# Altium footprint library CommonFPs.PcbLib: 38 footprints (part 1 of 3)
Each footprint in its own frame and in the unit in brackets; x right, y up, seen from the top. Pads: shape width x height; smd on the part's side, far side on the other; paste and mask are expansions set on the pad; w line width, h text height; cw(c..) or ccw(c..) is an arc to the next point about the centre after c.
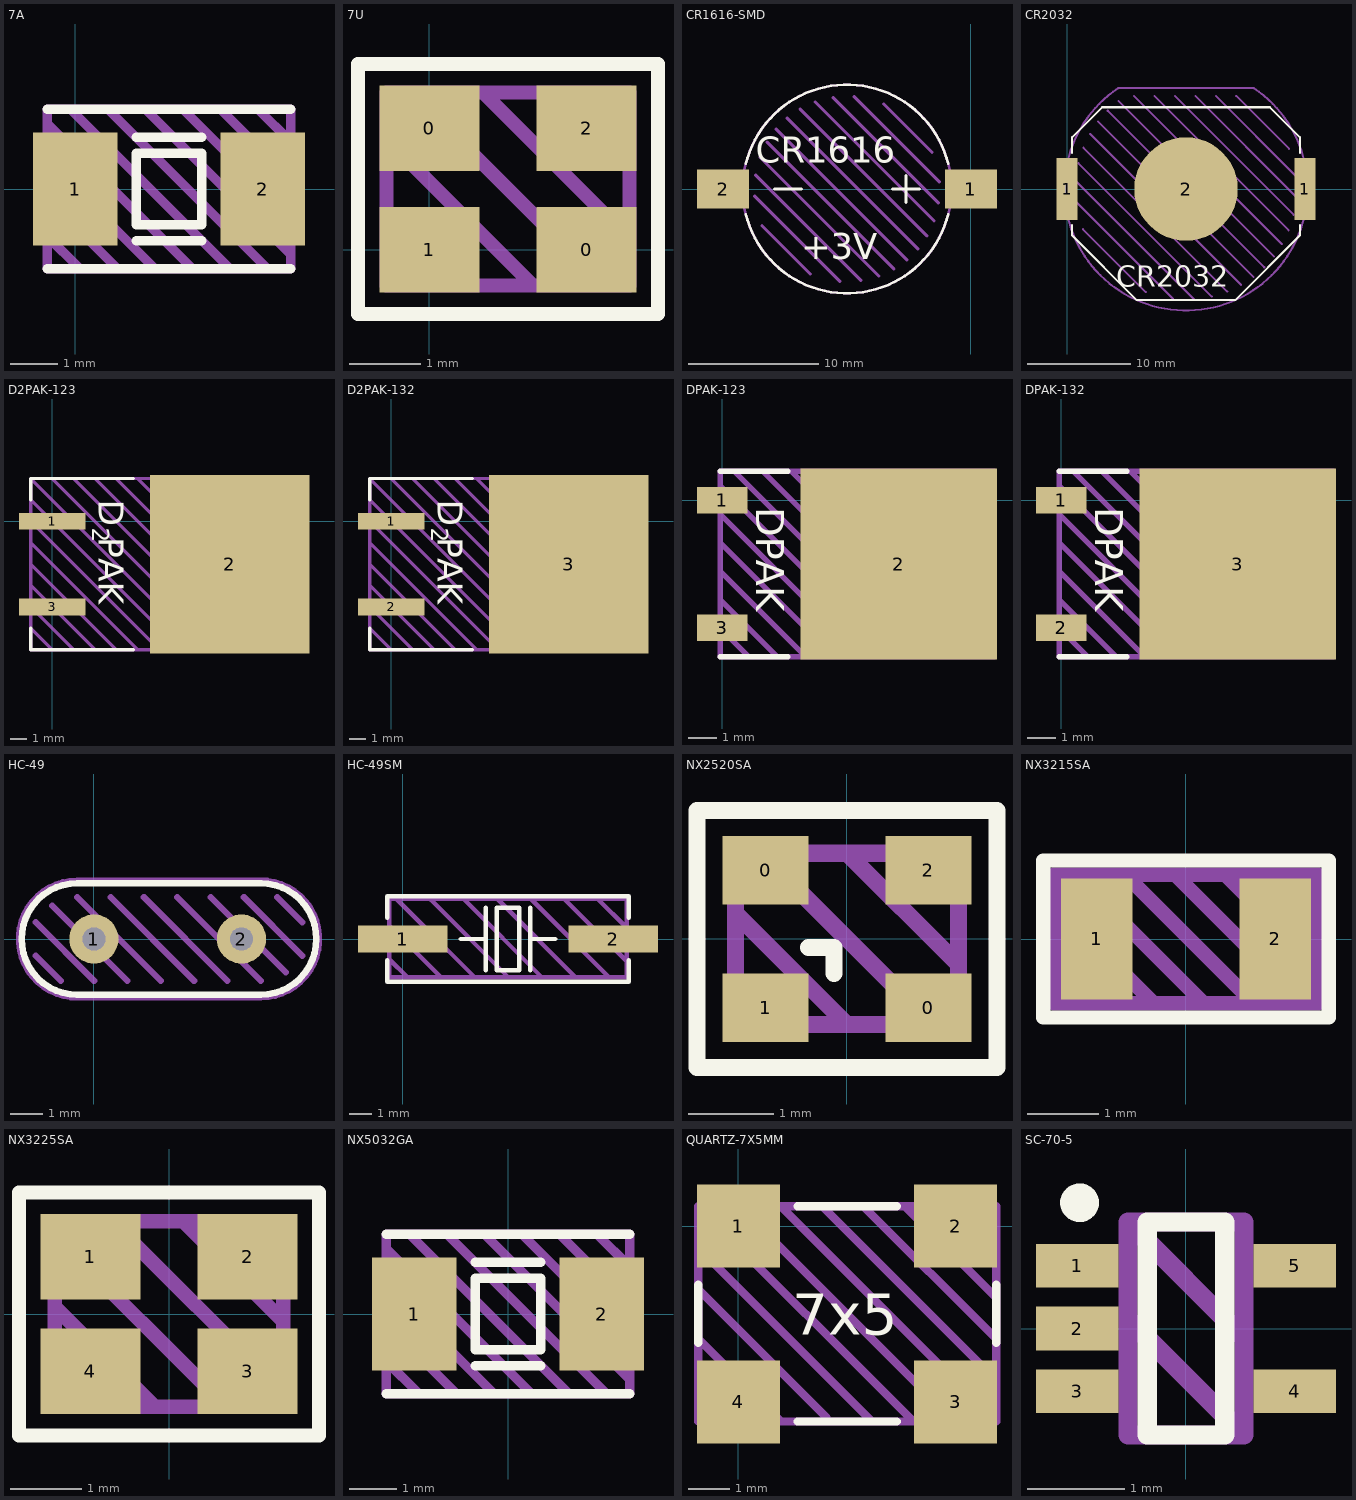
[diagram p0: the footprints below, top view; thin cyan lines are the x and y axes]

## 7A [mm] "SMD Glass Sealing Crystals"
pads (2):
  rect 1.8x2.4 smd: 1(0,0) 2(4,0)
Top Overlay:
  lines w0.2: -0.6,-1.7 4.6,-1.7 ; -0.6,1.7 4.6,1.7 ; 1.3,-1.1 2.7,-1.1 ; 1.3,1.1 2.7,1.1 ; 1.3,-0.762 1.3,0.762 2.7,0.762 2.7,-0.762 1.3,-0.762
Top Draw:
  lines w0.2: -0.6,-1 0.1,-1.7 ; -0.6,-0.2 0.9,-1.7 ; -0.6,0.6 1.7,-1.7 ; -0.6,1.4 2.5,-1.7 ; -0.1,1.7 3.3,-1.7 ; 0.7,1.7 4.1,-1.7 ; 1.5,1.7 4.6,-1.4 ; 2.3,1.7 4.6,-0.6 ; 3.1,1.7 4.6,0.2 ; 3.9,1.7 4.6,1 ; -0.6,-1.7 -0.6,1.7 4.6,1.7 4.6,-1.7 -0.6,-1.7
Top Info:
  text "'.Comment'" at -1.186,-2.837 h0.75
3D body: height 0.8, standoff 0.6, extent -0.4,-1.5 4.4,1.5
3D body: height 0.6, standoff 0, extent -0.6,-1.7 4.6,1.7

## 7U [mm] "3.2x2.5mm 7U Series SMD Crystal Units"
pads (4):
  rect 1.4x1.2 smd: 0(0,1.7) 0(2.2,0) 1(0,0) 2(2.2,1.7)
Top Overlay:
  lines w0.2: -1,-0.9 3.2,-0.9 3.2,2.6 -1,2.6 -1,-0.9
Top Draw:
  lines w0.2: -0.6,0.55 0.45,-0.5 ; -0.6,1.55 1.45,-0.5 ; -0.25,2.2 2.45,-0.5 ; 0.75,2.2 2.8,0.15 ; 1.75,2.2 2.8,1.15 ; -0.6,-0.5 2.8,-0.5 2.8,2.2 -0.6,2.2 -0.6,-0.5
Top Info:
  text "'.Comment'" at -1.449,-1.85 h0.6
3D body "NX3225SA.step": height 0.55, standoff 0, extent -0.5,-0.4 2.7,2.1

## CR1616-SMD [mm]
pads (2):
  rect 4x3 smd: 1(0,0) 2(-19,0)
Top Overlay:
  lines w0.2: -17.261,-1.94 ccw(c-9.5,0) -1.739,-1.94 ; -17.261,1.94 cw(c-9.5,0) -1.739,1.94
  lines w0.25: -15.032,0 -13,0 ; -6,0 -3.968,0 ; -4.984,-1.016 -4.984,1.016
  text "CR1616" at -16.5,2 h2
  text "+3V" at -13,-5.4 h2
Top Draw:
  circle w0.2: c-9.5,0 r8
  lines w0.25: -16.578,-0.559 -10.059,-7.078 ; -16.518,1.078 -8.422,-7.018 ; -16.172,2.429 -7.071,-6.672 ; -16.018,-2.816 -12.316,-6.518 ; -15.629,3.584 -5.916,-6.129 ; -14.927,4.578 -4.922,-5.427 ; -14.078,5.427 -4.073,-4.578 ; -13.084,6.129 -3.371,-3.584 ; -11.929,6.672 -2.828,-2.429 ; -10.578,7.018 -2.482,-1.078 ; -8.941,7.078 -2.422,0.559 ; -6.684,6.518 -2.982,2.816
Top Info:
  text "'.Comment'" at -15.873,-10.175 h1.5
3D body "cr1616.stp": height 2.1, standoff 0, extent -20.5,-8.095 1.6,8.1

## CR2032 [mm] "Battery Holder Compact"
pads (3):
  rect 2x6 smd: 1(0,0) 1(23,0)
  round 10 smd: 2(11.5,0)
Top Overlay:
  lines w0.2: 0.5,-3.5 0.5,-4.5 6.75,-10.75 16.25,-10.75 22.5,-4.5 22.5,-3.5 ; 0.5,3.5 0.5,5 ; 22.5,3.5 22.5,5 19.6,7.9 3.4,7.9 0.5,5 ; 0.5,5 0.5,5
  text "CR2032" at 4.75,-9.45 h2
Top Draw:
  lines w0.2: 0.828,0.773 12.273,-10.672 ; 0.874,-1.253 10.247,-10.626 ; 1.093,2.487 13.987,-10.407 ; 1.533,-3.892 7.608,-9.967 ; 1.571,3.989 15.489,-9.929 ; 2.218,5.322 16.822,-9.282 ; 3.009,6.511 18.011,-8.491 ; 3.934,7.566 19.066,-7.566 ; 4.989,8.491 19.991,-6.511 ; 6.46,9 20.782,-5.322 ; 8.44,9 21.429,-3.989 ; 10.42,9 21.907,-2.487 ; 12.399,9 22.172,-0.773 ; 14.379,9 22.126,1.253 ; 16.359,9 21.467,3.892 ; 4.948,9.753 ccw(c11.5,0) 18.052,9.753 4.948,9.753
Top Info:
  text "'.Comment'" at 4.827,-14.175 h1.5
3D body "CR2032_Holder.STEP": height 4.35, standoff 0.05, extent 0.05,-7.625 22.95,7.888

## D2PAK-123 [mm]
height 4.6
pads (3):
  rect 3.95x1 smd: 1(0,0) 3(0,-5.08)
  rect 9.5x10.6 smd: 2(10.541,-2.54)
Top Overlay:
  lines w0.2: -1.27,-6.35 -1.27,-7.62 4.826,-7.62 ; -1.27,1.27 -1.27,2.54 4.826,2.54
  text "2" at 2.379,-0.383 h1
  text "D PAK" at 2.762,1.27 h1.5
Top Draw:
  lines w0.2: -1.27,-6.35 0,-7.62 ; -1.27,-5.08 1.27,-7.62 ; -1.27,-3.81 2.54,-7.62 ; -1.27,-2.54 3.81,-7.62 ; -1.27,-1.27 5.08,-7.62 ; -1.27,0 6.35,-7.62 ; -1.27,1.27 7.62,-7.62 ; 0,2.54 10.16,-7.62 ; 1.27,2.54 11.43,-7.62 ; 2.54,2.54 12.7,-7.62 ; 3.81,2.54 13.97,-7.62 ; 5.08,2.54 14.097,-6.477 ; 6.35,2.54 14.097,-5.207 ; 7.62,2.54 14.097,-3.937 ; 8.89,-7.62 -1.27,2.54 ; 8.89,2.54 14.097,-2.667 ; 10.16,2.54 14.097,-1.397 ; 11.43,2.54 14.097,-0.127 ; 12.7,2.54 14.097,1.143 ; -1.27,2.54 14.097,2.54 14.097,-7.62 -1.27,-7.62 -1.27,2.54
Top Info:
  text "'.Comment'" at 1.339,-9.979 h1.25
3D body "D2PAK.step": height 4.7, standoff 0, extent -1.329,-7.69 14.096,2.61

## D2PAK-132 [mm]
height 4.6
pads (3):
  rect 3.95x1 smd: 1(0,0) 2(0,-5.08)
  rect 9.5x10.6 smd: 3(10.541,-2.54)
Top Overlay:
  lines w0.2: -1.27,-6.35 -1.27,-7.62 4.826,-7.62 ; -1.27,1.27 -1.27,2.54 4.826,2.54
  text "2" at 2.379,-0.383 h1
  text "D PAK" at 2.762,1.27 h1.5
Top Draw:
  lines w0.2: -1.27,-6.35 0,-7.62 ; -1.27,-5.08 1.27,-7.62 ; -1.27,-3.81 2.54,-7.62 ; -1.27,-2.54 3.81,-7.62 ; -1.27,-1.27 5.08,-7.62 ; -1.27,0 6.35,-7.62 ; -1.27,1.27 7.62,-7.62 ; 0,2.54 10.16,-7.62 ; 1.27,2.54 11.43,-7.62 ; 2.54,2.54 12.7,-7.62 ; 3.81,2.54 13.97,-7.62 ; 5.08,2.54 14.097,-6.477 ; 6.35,2.54 14.097,-5.207 ; 7.62,2.54 14.097,-3.937 ; 8.89,-7.62 -1.27,2.54 ; 8.89,2.54 14.097,-2.667 ; 10.16,2.54 14.097,-1.397 ; 11.43,2.54 14.097,-0.127 ; 12.7,2.54 14.097,1.143 ; -1.27,2.54 14.097,2.54 14.097,-7.62 -1.27,-7.62 -1.27,2.54
Top Info:
  text "'.Comment'" at 1.339,-9.979 h1.25
3D body "D2PAK.step": height 4.7, standoff 0, extent -1.329,-7.69 14.096,2.61

## DPAK-123 [mm] "TO-252"
pads (3):
  rect 1.8x0.95 smd: 1(0,0) 3(0,-4.56)
  rect 7x6.8 smd: 2(6.3,-2.28)
Top Overlay:
  lines w0.2: -0.073,-5.582 2.34,-5.582 ; -0.073,1.022 2.34,1.022
  text "DPAK" at 1.205,-0.253 h1
Top Draw:
  lines w0.2: -0.073,-4.566 0.943,-5.582 ; -0.073,-3.55 1.959,-5.582 ; -0.073,-2.534 2.975,-5.582 ; -0.073,-1.518 3.991,-5.582 ; -0.073,-0.502 5.007,-5.582 ; -0.073,0.514 6.023,-5.582 ; 0.435,1.022 7.039,-5.582 ; 1.451,1.022 8.055,-5.582 ; 2.467,1.022 9.071,-5.582 ; 3.483,1.022 9.706,-5.201 ; 4.499,1.022 9.706,-4.185 ; 5.515,1.022 9.706,-3.169 ; 6.531,1.022 9.706,-2.153 ; 7.547,1.022 9.706,-1.137 ; 8.563,1.022 9.706,-0.121 ; -0.073,-5.582 -0.073,1.022 9.706,1.022 9.706,-5.582 -0.073,-5.582
Top Info:
  text "'.Comment'" at 0.304,-7.254 h1
3D body "DPAK228P975X230-3N.step": height 2.3, standoff 0, extent -0.2,-5.53 9.55,0.97

## DPAK-132 [mm] "TO-252"
pads (3):
  rect 1.8x0.95 smd: 1(0,0) 2(0,-4.56)
  rect 7x6.8 smd: 3(6.3,-2.28)
Top Overlay:
  lines w0.2: -0.073,-5.582 2.34,-5.582 ; -0.073,1.022 2.34,1.022
  text "DPAK" at 1.205,-0.253 h1
Top Draw:
  lines w0.2: -0.073,-4.566 0.943,-5.582 ; -0.073,-3.55 1.959,-5.582 ; -0.073,-2.534 2.975,-5.582 ; -0.073,-1.518 3.991,-5.582 ; -0.073,-0.502 5.007,-5.582 ; -0.073,0.514 6.023,-5.582 ; 0.435,1.022 7.039,-5.582 ; 1.451,1.022 8.055,-5.582 ; 2.467,1.022 9.071,-5.582 ; 3.483,1.022 9.706,-5.201 ; 4.499,1.022 9.706,-4.185 ; 5.515,1.022 9.706,-3.169 ; 6.531,1.022 9.706,-2.153 ; 7.547,1.022 9.706,-1.137 ; 8.563,1.022 9.706,-0.121 ; -0.073,-5.582 9.706,-5.582 9.706,1.022 -0.073,1.022 -0.073,-5.582
Top Info:
  text "'.Comment'" at 0.304,-7.254 h1
3D body "DPAK228P975X230-3N.step": height 2.3, standoff 0, extent -0.2,-5.53 9.55,0.97

## HC-49 [mm]
pads (2):
  round 1.5 hole 0.7: 1(0,0) 2(4.5,0)
Top Overlay:
  lines w0.2: -0.529,-1.699 5.084,-1.699 ; -0.504,-1.7 cw(c-0.504,0) -0.504,1.7 ; -0.479,1.699 5.109,1.699 ; 5.084,-1.7 ccw(c5.084,0) 5.084,1.7
Top Draw:
  lines w0.2: -1.774,-0.508 -1.012,-1.27 ; -1.774,0.508 0.004,-1.27 ; -1.266,1.016 1.02,-1.27 ; -0.504,-1.778 5.084,-1.778 ; -0.504,1.27 2.036,-1.27 ; -0.504,1.778 5.084,1.778 ; -0.504,1.779 ccw(c-0.504,0) -0.479,-1.779 ; 0.512,1.27 3.052,-1.27 ; 1.528,1.27 4.068,-1.27 ; 2.544,1.27 5.084,-1.27 ; 3.56,1.27 5.846,-1.016 ; 4.576,1.27 6.354,-0.508 ; 5.059,1.779 cw(c5.084,0) 5.084,-1.779 ; 5.592,1.27 6.354,0.508
Top Info:
  text "'.Comment'" at -0.886,-2.937 h0.75
3D body: height 0.25, standoff -1.78, extent 4.246,-0.254 4.754,0.254
3D body: height 0.25, standoff -1.78, extent -0.254,-0.254 0.254,0.254
3D body: height 2.26, standoff 0.23, extent 3.687,-1.27 6.227,1.27
3D body: height 0.25, standoff 0, extent 3.433,-1.651 6.735,1.651
3D body: height 0.25, standoff 0, extent -2.155,-1.651 1.147,1.651
3D body: height 2.26, standoff 0.23, extent -1.647,-1.27 0.893,1.27
3D body: height 2.26, standoff 0.23, extent -0.382,-1.268 4.952,1.267
3D body: height 0.25, standoff 0, extent -0.377,-1.651 4.957,1.651

## HC-49SM [mm]
pads (2):
  rect 4x1.2 smd: 1(0,0) 2(9.4,0)
Top Overlay:
  lines w0.2: -0.7,-0.95 -0.7,-1.9 10.1,-1.9 10.1,-0.95 ; -0.7,0.95 -0.7,1.9 10.1,1.9 10.1,0.95 ; 2.6,0 3.7,0 ; 3.7,-1.4 3.7,0 ; 3.7,1.4 3.7,0 ; 5.7,-1.4 5.7,0 ; 5.7,1.4 5.7,0 ; 6.8,0 5.7,0 ; 4.2,-1.4 5.2,-1.4 5.2,1.4 4.2,1.4 4.2,-1.4
Top Draw:
  lines w0.2: -0.6,-0.9 0.2,-1.7 ; -0.241,1.759 3.2,-1.7 ; 1.259,1.759 4.7,-1.7 ; 1.7,-1.7 -0.6,0.6 ; 2.759,1.759 6.2,-1.7 ; 4.259,1.759 7.7,-1.7 ; 5.759,1.759 9.2,-1.7 ; 7.2,1.8 10,-1 10,-1.3 ; 8.7,1.8 10,0.5 10,0 ; -0.6,0.6 -0.6,0.6 ; -0.6,-1.7 -0.6,1.8 10,1.8 10,-1.7 -0.6,-1.7
Top Info:
  text "'.Comment'" at 0.451,-3.483 h1
3D body: height 0.1, standoff 0, extent 7.1,-0.5 11.1,0.5
3D body: height 0.1, standoff 0, extent -1.7,-0.5 2.3,0.5
3D body: height 3.5, standoff 0.1, extent -0.2,-1.7 9.6,1.7
3D body: height 0.6, standoff 0.1, extent -0.45,-1.9 9.85,1.9
3D body: height 0.3, standoff 0.05, extent -0.6,-2 10,2

## NX2520SA [mm]
pads (4):
  rect 1x0.8 smd: 0(-0.95,0.799) 0(0.95,-0.801) 1(-0.95,-0.801) 2(0.95,0.799)
Top Overlay:
  lines w0.2: -0.45,-0.101 -0.15,-0.101 -0.15,-0.401 ; -1.75,-1.501 1.75,-1.501 1.75,1.499 -1.75,1.499 -1.75,-1.501
Top Draw:
  lines w0.2: -1.3,0.3 0,-1 ; -1,1 1,-1 ; 0,1 1.3,-0.3 ; -1.3,-1 -1.3,1 1.3,1 1.3,-1 -1.3,-1
Top Info:
  text "'.Comment'" at -3.186,-2.637 h0.75
3D body: height 0.58, standoff 0, extent -1.225,-0.976 1.225,0.976
3D body: height 0.6, standoff 0.01, extent -1.202,-0.951 1.203,0.949
3D body: height 0.5, standoff 0.02, extent -1.25,-1.001 1.25,1.001

## NX3215SA [mm]
pads (2):
  rect 1x1.7 smd: 1(-1.25,0) 2(1.25,0)
Top Overlay:
  lines w0.2: -2,-1.1 -2,1.1 2,1.1 2,-1.1 -2,-1.1
Top Draw:
  lines w0.2: -1.85,-0.2 -1.15,-0.9 -0.95,-0.9 -1.35,-0.9 ; -1.85,0.5 -0.45,-0.9 -0.15,-0.9 ; -1.55,0.9 0.25,-0.9 0.45,-0.9 ; -0.85,0.9 0.95,-0.9 ; -0.15,0.9 1.65,-0.9 ; 0.55,0.9 1.85,-0.4 1.85,-0.6 ; 1.25,0.9 1.85,0.3 1.85,0 ; -1.85,-0.9 -1.85,0.9 1.85,0.9 1.85,-0.9 -1.85,-0.9
Top Info:
  text "'.Comment'" at -3.186,-2.237 h0.75
3D body: height 0.58, standoff 0.01, extent -1.45,-0.8 1.45,0.8
3D body: height 0.6, standoff 0.01, extent -1.425,-0.775 1.425,0.775
3D body: height 0.5, standoff 0, extent -1.475,-0.825 1.475,0.825

## NX3225SA [mm]
pads (4):
  rect 1.4x1.2 smd: 1(-1.1,0.8) 2(1.1,0.8) 3(1.1,-0.8) 4(-1.1,-0.8)
Top Overlay:
  lines w0.2: -2.1,-1.7 2.1,-1.7 2.1,1.7 -2.1,1.7 -2.1,-1.7
Top Draw:
  lines w0.2: -1.6,0.1 -0.2,-1.3 ; -1.6,1.1 0.8,-1.3 ; -0.8,1.3 1.6,-1.1 ; 0.2,1.3 1.6,-0.1 ; -1.6,-1.3 -1.6,1.3 1.6,1.3 1.6,-1.3 -1.6,-1.3
Top Info:
  text "'.Comment'" at -2.124,-2.492 h0.5
3D body "NX3225SA.step": height 0.55, standoff 0, extent -1.6,-1.25 1.6,1.25

## NX5032GA [mm] "SMD Glass Sealing Crystals"
pads (2):
  rect 1.8x2.4 smd: 1(-2,0) 2(2,0)
Top Overlay:
  lines w0.2: -2.6,-1.7 2.6,-1.7 ; -2.6,1.7 2.6,1.7 ; -0.7,-1.1 0.7,-1.1 ; -0.7,1.1 0.7,1.1 ; -0.7,-0.762 0.7,-0.762 0.7,0.762 -0.7,0.762 -0.7,-0.762
Top Draw:
  lines w0.2: -2.6,-1 -1.9,-1.7 ; -2.6,-0.2 -1.1,-1.7 ; -2.6,0.6 -0.3,-1.7 ; -2.6,1.4 0.5,-1.7 ; -2.1,1.7 1.3,-1.7 ; -1.3,1.7 2.1,-1.7 ; -0.5,1.7 2.6,-1.4 ; 0.3,1.7 2.6,-0.6 ; 1.1,1.7 2.6,0.2 ; 1.9,1.7 2.6,1 ; -2.6,-1.7 -2.6,1.7 2.6,1.7 2.6,-1.7 -2.6,-1.7
Top Info:
  text "'.Comment'" at -3.186,-2.837 h0.75
3D body: height 0.6, standoff 0, extent -2.6,-1.7 2.6,1.7
3D body: height 0.8, standoff 0.6, extent -2.4,-1.5 2.4,1.5

## QUARTZ-7X5MM [mm]
pads (4):
  rect 2x2 smd: 1(0,0) 2(5.25,0) 3(5.25,-4.25) 4(0,-4.25)
Top Overlay:
  lines w0.2: -0.971,-2.821 -0.971,-1.421 ; 1.429,-4.721 3.829,-4.721 ; 1.429,0.479 3.829,0.479 ; 6.229,-2.821 6.229,-1.421
  text "7x5" at 1.296,-2.621 h1
Top Draw:
  lines w0.2: -0.971,-3.721 0.029,-4.721 ; -0.971,-2.721 1.029,-4.721 ; -0.971,-1.521 2.129,-4.621 ; -0.971,-0.521 3.229,-4.721 ; 0.029,0.479 5.229,-4.721 ; 1.029,0.479 6.229,-4.721 ; 2.029,0.479 6.229,-3.721 ; 3.029,0.479 6.229,-2.721 ; 4.029,0.479 6.229,-1.721 ; 4.229,-4.721 -0.971,0.479 ; 5.029,0.479 6.229,-0.721 ; -0.971,0.479 -0.971,-4.721 6.229,-4.721 ; -0.971,0.479 6.229,0.479 6.229,-4.721
Top Info:
  text "'.Comment'" at -1.62,-6.704 h1
3D body: height 1.5, standoff 0.1, extent -0.991,-4.75 6.248,0.508
3D body: height 2, standoff 1.7, extent -0.749,-4.496 6.007,0.254
3D body: height 1.7, standoff 1.5, extent -0.991,-4.75 6.248,0.508

## SC-70-5 [mm]
height 1
pads (5):
  rect 0.85x0.45 smd: 1(-1.125,0.65) 2(-1.125,0) 3(-1.125,-0.65) 4(1.125,-0.65) 5(1.125,0.65)
Top Overlay:
  circle w0.2: c-1.1,1.3 r0.1
  lines w0.2: -0.4,-1.1 0.4,-1.1 0.4,1.1 -0.4,1.1 -0.4,-1.1
Top Draw:
  lines w0.2: -0.6,0.1 0.6,-1.1 ; 0.6,-0.1 -0.6,1.1 ; -0.6,1.1 0.6,1.1 0.6,-1.1 ; -0.6,1.1 -0.6,-1.1 0.6,-1.1
Top Info:
  text "'.Comment'" at -2.124,-1.892 h0.5
3D body "SOT65P210X100-5N.step": height 1, standoff 0, extent -1.2,-1.075 1.2,1.075